# EAGLE library part LM555 (library LM555-Jessica-Ly)
TI LM555 TIMER Datasheet <https;//www.ti.com/lit/ds/symlink/lm555.pdf>
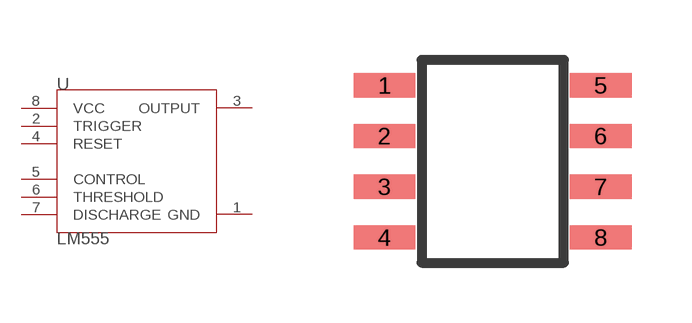
[diagram p53: symbol with the pads of SOIC-8; footprint SOIC-8]

Designator prefix -

## LM555  [SOIC-8]
1  GND  pas
2  TRIGGER  pas
3  OUTPUT  pas
4  RESET  pas
5  CONTROL  pas
6  THRESHOLD  pas
7  DISCHARGE  pas
8  VCC  pas

## Footprint SOIC-8 (pad centres in mm)
smd 1.549 x 0.61: 1 -2.705,1.905; 2 -2.705,0.635; 3 -2.705,-0.635; 4 -2.705,-1.905; 5 2.705,1.905; 6 2.705,0.635; 7 2.705,-0.635; 8 2.705,-1.905